# Altium schematic symbol library diode.SCHLIB: 1 symbol
Pins are listed as number, name and electrical type; pins without a type are passive.

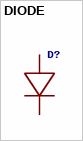
[diagram p0: symbol DIODE]

## DIODE
designator D?
SPICEMODEL: diode; SPICEPREFIX: D
pins: ?1 +, ?2 -